# Altium footprint library Full_lib.PcbLib: 247 footprints (part 1 of 16)
Each footprint in its own frame and in the unit in brackets; x right, y up, seen from the top. Pads: shape width x height; smd on the part's side, far side on the other; paste and mask are expansions set on the pad; w line width, h text height; cw(c..) or ccw(c..) is an arc to the next point about the centre after c.
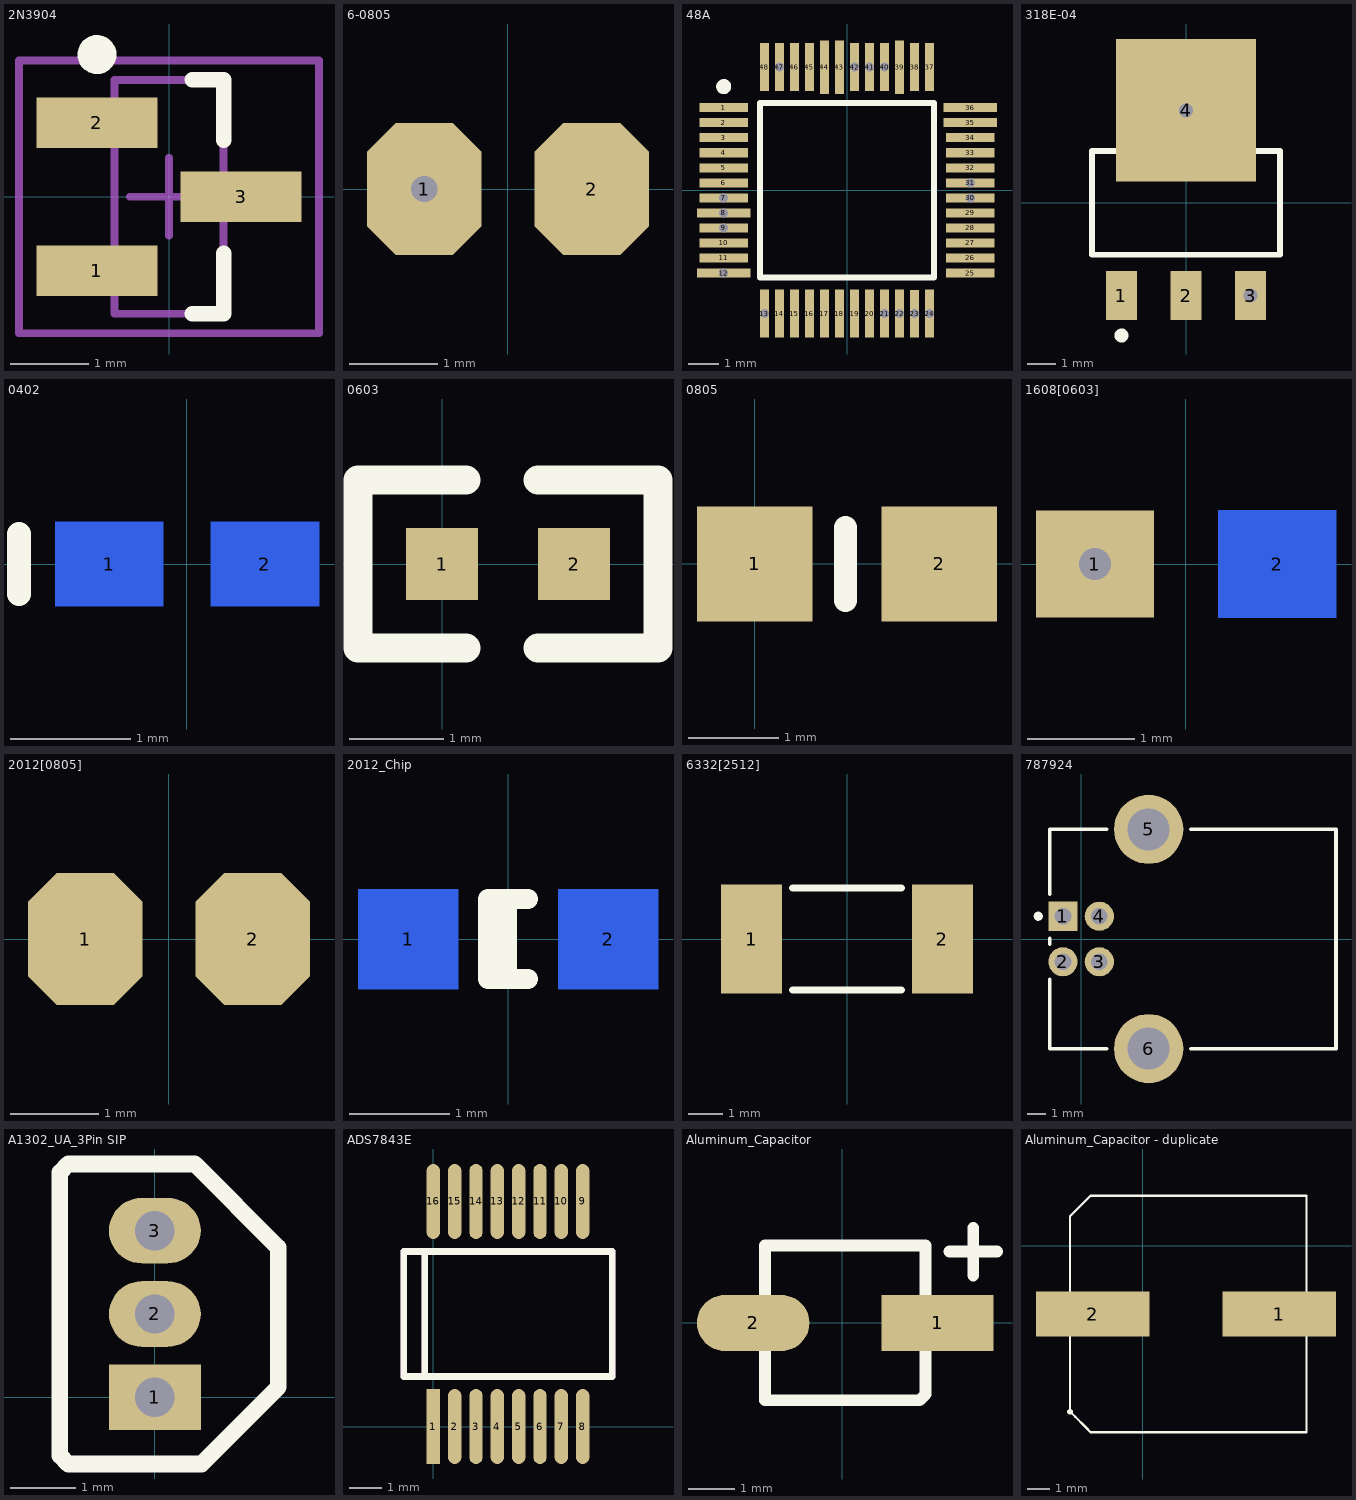
[diagram p0: the footprints below, top view; thin cyan lines are the x and y axes]

## 2N3904 [mm] "2N3904"
height 1.1
pads (3):
  rect 1.55x0.65 smd: 1(-0.925,-0.95) 2(-0.925,0.95) 3(0.925,0)
Top Overlay:
  circle w0.25: c-0.925,1.825 r0.125
  lines w0.2: 0.3,-1.5 0.7,-1.5 0.7,-0.725 ; 0.3,1.5 0.7,1.5 0.7,0.725
Mechanical 13:
  lines w0.1: -0.7,-1.5 0.7,-1.5 0.7,1.5 -0.7,1.5 -0.7,-1.5
Mechanical 15:
  lines w0.1: -0.5,0 0.5,0 ; 0,-0.5 0,0.5 ; -1.925,-1.75 1.925,-1.75 1.925,1.75 -1.925,1.75 -1.925,-1.75
3D body: height 1.1, standoff 0.05, extent -0.7,-1.5 0.7,1.5

## 6-0805 [mm] "Chip Resistor; Body 2.0 x 1.3 mm (LxW typ)"
height 0.65
pads (2):
  oct 1.3x1.5 hole 0.3: 1(-0.95,0)
  oct 1.3x1.5 smd: 2(0.95,0)

## 48A [mm] "QFP; 48 Leads; Body 7 x 7 mm; Pitch 0.5 mm"
height 1.6
pads (48):
  rect 1.6x0.3 smd: 1(-4.1,2.75) 2(-4.1,2.25) 3(-4.1,1.75) 4(-4.1,1.25) 5(-4.1,0.75) 6(-4.1,0.25) 10(-4.1,-1.75) 11(-4.1,-2.25) 25(4.1,-2.75) 26(4.1,-2.25) 27(4.1,-1.75) 28(4.1,-1.25) 29(4.1,-0.75) 32(4.1,0.75) 33(4.1,1.25) 34(4.1,1.75)
  rect 1.6x0.3 hole 0.3: 7(-4.1,-0.25) 9(-4.1,-1.25) 30(4.1,-0.25) 31(4.1,0.25)
  rect 1.778x0.3 hole 0.3: 8(-4.1,-0.75) 12(-4.1,-2.75)
  rect 0.3x1.6 hole 0.3: 13(-2.75,-4.1) 21(1.25,-4.1) 22(1.75,-4.1) 24(2.75,-4.1) 40(1.25,4.1) 41(0.75,4.1) 42(0.25,4.1) 47(-2.25,4.1)
  rect 0.3x1.6 smd: 14(-2.25,-4.1) 15(-1.75,-4.1) 16(-1.25,-4.1) 17(-0.75,-4.1) 18(-0.25,-4.1) 19(0.25,-4.1) 20(0.75,-4.1) 37(2.75,4.1) 38(2.25,4.1) 45(-1.25,4.1) 46(-1.75,4.1) 48(-2.75,4.1)
  rect 0.3x1.575 hole 0.3: 23(2.25,-4.1)
  rect 1.778x0.3 smd: 35(4.1,2.25) 36(4.1,2.75)
  rect 0.3x1.778 smd: 39(1.75,4.1) 43(-0.25,4.1) 44(-0.75,4.1)
Top Overlay:
  circle w0.25: c-4.1,3.45 r0.125
  lines w0.2: -2.9,-2.9 2.9,-2.9 2.9,2.9 -2.9,2.9 -2.9,-2.9

## 318E-04 [mm] "SOT-223/SC-73; 4 Leads; Body 6.7 x 7.3 mm, inc. leads (LxW max)"
height 1.75
pads (4):
  rect 1.1x1.75 smd: 1(-2.3,-3.3) 2(0,-3.3)
  rect 1.1x1.75 hole 0.5: 3(2.3,-3.3)
  rect 4.978x5.08 hole 0.5: 4(0,3.3)
Top Overlay:
  circle w0.25: c-2.3,-4.725 r0.125
  lines w0.2: -3.35,-1.85 -3.35,1.85 3.35,1.85 3.35,-1.85 -3.35,-1.85

## 0402 [mm] "Chip Capacitor; Body 1.0 x 0.5 mm (LxW typ)"
height 1.35
pads (2):
  rect 0.9x0.7 smd far side: 1(-0.65,0) 2(0.65,0)
Top Overlay:
  lines w0.2: -1.4,-0.25 -1.4,0.25

## 0603 [mil]
pads (2):
  rect 30x30 smd: 1(0,0) 2(55,0)
Top Overlay:
  lines w12: 10,-35 -35,-35 -35,35 10,35 ; 40,-35 90,-35 90,35 40,35

## 0805 [mil]
pads (2):
  rect 50x50 smd: 1(0,0) 2(80,0)
Top Overlay:
  lines w10: 39.37,-15.75 39.37,15.75

## 1608[0603] [mm] "Chip Capacitor; Body 1.6 x 0.8 mm (LxW typ)"
height 1.35
pads (2):
  rect 1.1x1 hole 0.3: 1(-0.85,0)
  rect 1.1x1 smd far side: 2(0.85,0)

## 2012[0805] [mm] "Chip Resistor; Body 2.0 x 1.3 mm (LxW typ)"
height 2.54
pads (2):
  oct 1.3x1.5 smd: 1(-0.95,0) 2(0.95,0)

## 2012_Chip [mm] "2012 Chip; Chip Inductor; Body 2.0 x 1.2 mm (LxW typ)"
height 0.55
pads (2):
  rect 1x1 smd far side: 1(-1,0) 2(1,0)
Top Overlay:
  lines w0.2: -0.01,-0.4 -0.01,0.4 ; 0.2,-0.4 -0.2,-0.4 -0.2,0.4 0.2,0.4

## 6332[2512] [mm] "Chip Resistor; Body 6.3 x 3.2 mm (LxW typ)"
height 0.6
pads (2):
  rect 1.8x3.2 smd: 1(-2.8,0) 2(2.8,0)
Top Overlay:
  lines w0.2: -1.6,-1.5 1.6,-1.5 ; -1.6,1.5 1.6,1.5

## 787924 [mm] "Connector; USB1.1, Type B, Thru-Hole; 4 Position; Right Angle"
height 11.5
pads (6):
  rect 1.6x1.6 hole 0.92: 1(-1,1.25)
  round 1.6 hole 0.92: 2(-1,-1.25) 3(1,-1.25) 4(1,1.25)
  round 3.8 hole 2.3: 5(3.71,6.02) 6(3.71,-6.02)
Top Overlay:
  circle w0.25: c-2.35,1.25 r0.125
  lines w0.2: -1.72,-2.21 -1.72,-6.02 1.41,-6.02 ; -1.72,-0.29 -1.72,0.05 ; -1.72,2.45 -1.72,6.02 1.41,6.02 ; 6.01,-6.02 13.99,-6.02 13.99,6.02 6.01,6.02

## A1302_UA_3Pin SIP [mm]
height 20
pads (3):
  rect 1.4x1 hole 0.6: 1(0,0)
  oval 1.4x1 hole 0.6: 2(0,1.27) 3(0,2.54)
Top Overlay:
  lines w0.254: -1.448,-0.889 -1.448,3.429 -1.321,3.556 0.61,3.556 1.88,2.286 1.88,0.152 0.711,-1.016 -0.711,-1.016 -1.321,-1.016 -1.448,-0.889

## ADS7843E [mil]
pads (16):
  rect 16x90 smd: 1(0,0)
  oval 16x90 smd: 2(25.6,0) 3(51.2,0) 4(76.8,0) 5(102.4,0) 6(128,0) 7(153.6,0) 8(179.2,0) 9(179.2,270) 10(153.6,270) 11(128,270) 12(102.4,270) 13(76.8,270) 14(51.2,270) 15(25.6,270) 16(0,270)
Top Overlay:
  lines w8: -10.4,60 -10.4,210 ; -35.4,60 214.6,60 214.6,210 -35.4,210 -35.4,60
Mechanical 1:
  lines w8: -10.4,60 -10.4,210 ; -35.4,60 214.6,60 214.6,210 -35.4,210 -35.4,60
Multi-Layer:
  text "ADE7805" at -110,-145 h60

## Aluminum_Capacitor [mm]
height 8
pads (2):
  rect 2.4x1.2 smd: 1(2.032,0)
  oval 2.4x1.2 smd: 2(-1.905,0)
Top Overlay:
  lines w0.254: 2.286,1.524 3.302,1.524 ; 2.794,1.016 2.794,2.032 ; -1.651,-1.651 -1.651,1.651 1.778,1.651 1.778,-1.524 1.651,-1.651 -1.651,-1.651

## Aluminum_Capacitor - duplicate [mm]
height 8
pads (2):
  rect 5x2 smd: 1(6,-3) 2(-2.2,-3)
Top Overlay:
  lines w0.1: -3.2,-7.3 -2.975,-7.525 -2.525,-7.975 -2.3,-8.2 7.2,-8.2 7.2,2.2 -2.3,2.2 -3.2,1.3 -3.2,-7.3
  lines w0.254: -3.2,-7.3 -3.2,-7.3